# Altium footprint library TRANS_FDMS0300S.PcbLib: 1 footprints
Each footprint in its own frame and in the unit in brackets; x right, y up, seen from the top. Pads: shape width x height; smd on the part's side, far side on the other; paste and mask are expansions set on the pad; w line width, h text height; cw(c..) or ccw(c..) is an arc to the next point about the centre after c.
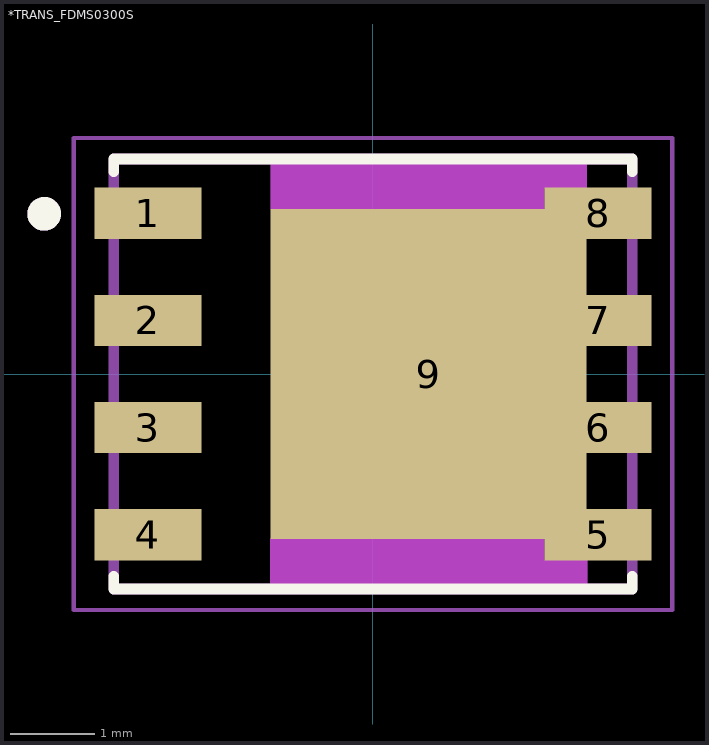
[diagram p0: the footprint, top view; thin cyan lines are the x and y axes]

## *TRANS_FDMS0300S [mm]
pads (9):
  rect 1.27x0.61 smd: 1(-2.67,1.905) 2(-2.67,0.635) 3(-2.67,-0.635) 4(-2.67,-1.905) 5(2.67,-1.905) 6(2.67,-0.635) 7(2.67,0.635) 8(2.67,1.905)
  rect 3.75x3.91 smd: 9(0.66,0)
Top Overlay:
  circle w0.2: c-3.9,1.9 r0.1
  lines w0.127: -3.075,-2.4 -3.075,-2.55 3.075,-2.55 3.075,-2.4 ; -3.075,2.4 -3.075,2.55 3.075,2.55 3.075,2.4
Keep-Out Layer:
  region: 2.54,-2.562 2.036,-2.562 2.036,-2.21 2.54,-2.21
  region: -1.217,-1.955 2.035,-1.955 2.035,-2.554 -1.217,-2.554
  region: 2.031,2.55 2.535,2.55 2.535,2.201 2.031,2.201
  region: -1.212,2.55 2.035,2.55 2.035,1.958 -1.212,1.958
  region: 2.54,-2.562 2.036,-2.562 2.036,-2.21 2.54,-2.21
  region: -1.217,-1.955 2.035,-1.955 2.035,-2.554 -1.217,-2.554
  region: 2.031,2.55 2.535,2.55 2.535,2.201 2.031,2.201
  region: -1.212,2.55 2.035,2.55 2.035,1.958 -1.212,1.958
  region: 2.54,-2.562 2.036,-2.562 2.036,-2.21 2.54,-2.21
  region: -1.217,-1.955 2.035,-1.955 2.035,-2.554 -1.217,-2.554
  region: 2.031,2.55 2.535,2.55 2.535,2.201 2.031,2.201
  region: -1.212,2.55 2.035,2.55 2.035,1.958 -1.212,1.958
Mechanical 4:
  circle w0.2: c-3.9,1.9 r0.1
  circle w0.2: c-3.9,1.9 r0.1
  lines w0.127: -3.075,-2.55 -3.075,2.55 ; -3.075,-2.55 3.075,-2.55 ; -3.075,-2.55 -3.075,2.55 ; -3.075,-2.55 3.075,-2.55 ; -3.075,2.55 3.075,2.55 ; -3.075,2.55 3.075,2.55 ; 3.075,-2.55 3.075,2.55 ; 3.075,-2.55 3.075,2.55
Mechanical 16:
  region: 2.54,-2.562 2.036,-2.562 2.036,-2.21 2.54,-2.21
  region: -1.216,-1.955 2.035,-1.955 2.035,-2.553 -1.216,-2.553
  region: 2.031,2.55 2.535,2.55 2.535,2.201 2.031,2.201
  region: -1.21,2.55 2.035,2.55 2.035,1.956 -1.21,1.956
  lines w0.05: -3.55,-2.8 -3.55,2.8 3.55,2.8 3.55,-2.8 -3.55,-2.8